# Altium schematic symbol library LED7.SchLib: 3 symbols
Pins are listed as number, name and electrical type; pins without a type are passive.

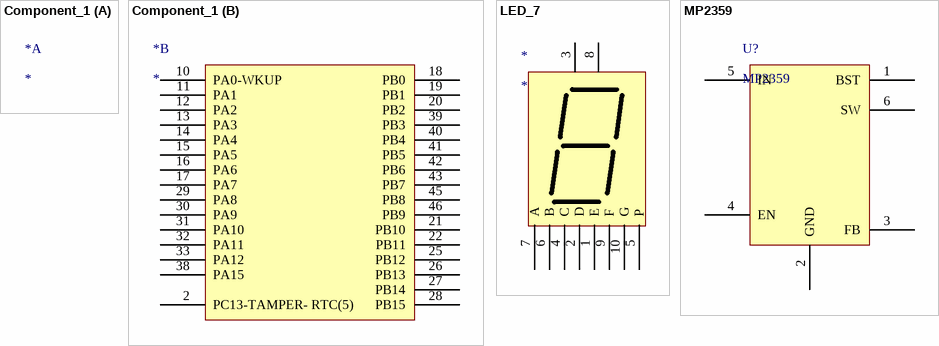
[diagram p0: symbols Component_1 to MP2359]

## Component_1
designator *
part B pins: 2 PC13-TAMPER- RTC(5), 10 PA0-WKUP, 11 PA1, 12 PA2, 13 PA3, 14 PA4, 15 PA5, 16 PA6, 17 PA7, 18 PB0, 19 PB1, 20 PB2, 21 PB10, 22 PB11, 25 PB12, 26 PB13, 27 PB14, 28 PB15, 29 PA8, 30 PA9, 31 PA10, 32 PA11, 33 PA12, 38 PA15, 39 PB3, 40 PB4, 41 PB5, 42 PB6, 43 PB7, 45 PB8, 46 PB9

## LED_7
designator *
pins: 1 E, 2 D, 3 COM, 4 C, 5 P, 6 B, 7 A, 8 COM, 9 F, 10 G

## MP2359
designator U?
pins: 1 BST, 2 GND, 3 FB, 4 EN, 5 IN, 6 SW